# EAGLE library part EP2C50F672 (library altera-cyclone-II)
EP2C50F672 Auto generated by make-symbol-device-package-bsdl.ulp Rev. 19 Tip: Use split-device-symbol.ulp to generate a Device with multiple small symbols! Read HELP. Source: EP2C50F672.BSD
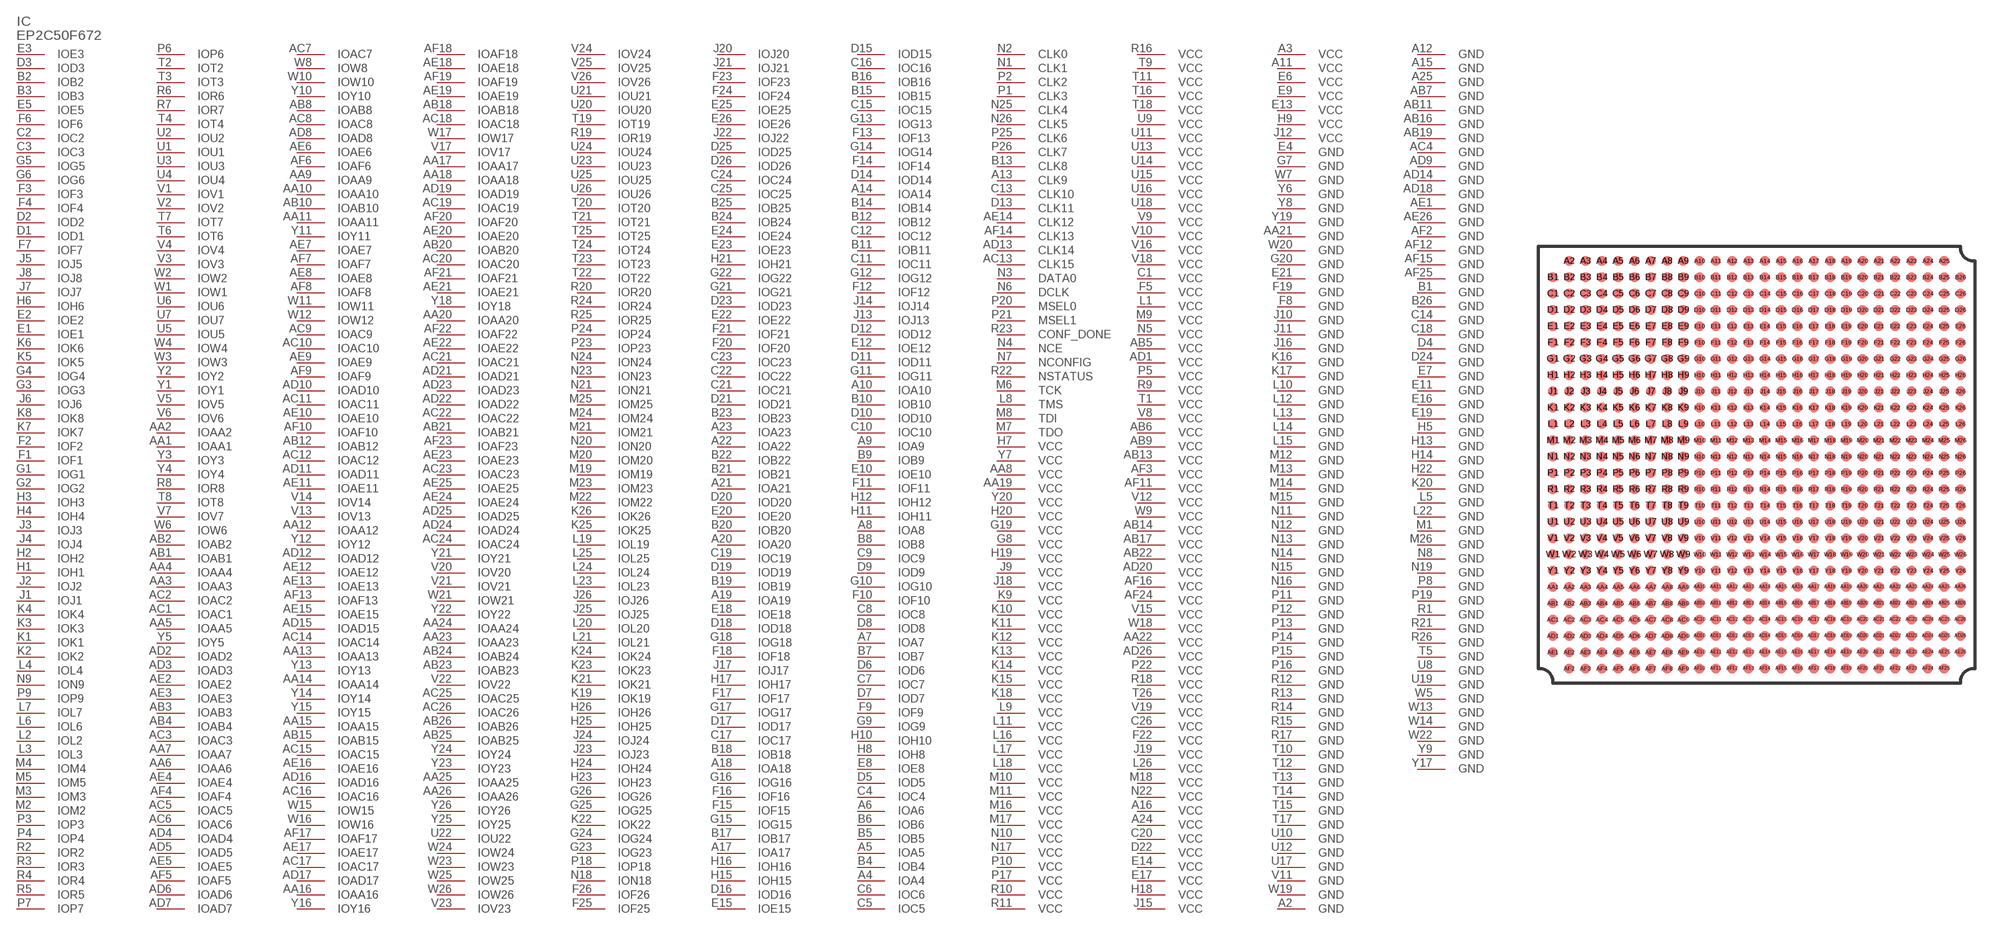
[diagram p12: symbol with the pads of FBGA672; footprint FBGA672]

Designator prefix IC

## EP2C50F672  [FBGA672]
A2  GND  pwr
A3  VCC  pwr
A4  IOA4
A5  IOA5
A6  IOA6
A7  IOA7
A8  IOA8
A9  IOA9
A10  IOA10
A11  VCC  pwr
A12  GND  pwr
A13  CLK9
A14  IOA14
A15  GND  pwr
A16  VCC  pwr
A17  IOA17
A18  IOA18
A19  IOA19
A20  IOA20
A21  IOA21
A22  IOA22
A23  IOA23
A24  VCC  pwr
A25  GND  pwr
AA1  IOAA1
AA2  IOAA2
AA3  IOAA3
AA4  IOAA4
AA5  IOAA5
AA6  IOAA6
AA7  IOAA7
AA8  VCC  pwr
AA9  IOAA9
AA10  IOAA10
AA11  IOAA11
AA12  IOAA12
AA13  IOAA13
AA14  IOAA14
AA15  IOAA15
AA16  IOAA16
AA17  IOAA17
AA18  IOAA18
AA19  VCC  pwr
AA20  IOAA20
AA21  GND  pwr
AA22  VCC  pwr
AA23  IOAA23
AA24  IOAA24
AA25  IOAA25
AA26  IOAA26
AB1  IOAB1
AB2  IOAB2
AB3  IOAB3
AB4  IOAB4
AB5  VCC  pwr
AB6  VCC  pwr
AB7  GND  pwr
AB8  IOAB8
AB9  VCC  pwr
AB10  IOAB10
AB11  GND  pwr
AB12  IOAB12
AB13  VCC  pwr
AB14  VCC  pwr
AB15  IOAB15
AB16  GND  pwr
AB17  VCC  pwr
AB18  IOAB18
AB19  GND  pwr
AB20  IOAB20
AB21  IOAB21
AB22  VCC  pwr
AB23  IOAB23
AB24  IOAB24
AB25  IOAB25
AB26  IOAB26
AC1  IOAC1
AC2  IOAC2
AC3  IOAC3
AC4  GND  pwr
AC5  IOAC5
AC6  IOAC6
AC7  IOAC7
AC8  IOAC8
AC9  IOAC9
AC10  IOAC10
AC11  IOAC11
AC12  IOAC12
AC13  CLK15
AC14  IOAC14
AC15  IOAC15
AC16  IOAC16
AC17  IOAC17
AC18  IOAC18
AC19  IOAC19
AC20  IOAC20
AC21  IOAC21
AC22  IOAC22
AC23  IOAC23
AC24  IOAC24
AC25  IOAC25
AC26  IOAC26
AD1  VCC  pwr
AD2  IOAD2
AD3  IOAD3
AD4  IOAD4
AD5  IOAD5
AD6  IOAD6
AD7  IOAD7
AD8  IOAD8
AD9  GND  pwr
AD10  IOAD10
AD11  IOAD11
AD12  IOAD12
AD13  CLK14
AD14  GND  pwr
AD15  IOAD15
AD16  IOAD16
AD17  IOAD17
AD18  GND  pwr
AD19  IOAD19
AD20  VCC  pwr
AD21  IOAD21
AD22  IOAD22
AD23  IOAD23
AD24  IOAD24
AD25  IOAD25
AD26  VCC  pwr
AE1  GND  pwr
AE2  IOAE2
AE3  IOAE3
AE4  IOAE4
AE5  IOAE5
AE6  IOAE6
AE7  IOAE7
AE8  IOAE8
AE9  IOAE9
AE10  IOAE10
AE11  IOAE11
AE12  IOAE12
AE13  IOAE13
AE14  CLK12
AE15  IOAE15
AE16  IOAE16
AE17  IOAE17
AE18  IOAE18
AE19  IOAE19
AE20  IOAE20
AE21  IOAE21
AE22  IOAE22
AE23  IOAE23
AE24  IOAE24
AE25  IOAE25
AE26  GND  pwr
AF2  GND  pwr
AF3  VCC  pwr
AF4  IOAF4
AF5  IOAF5
AF6  IOAF6
AF7  IOAF7
AF8  IOAF8
AF9  IOAF9
AF10  IOAF10
AF11  VCC  pwr
AF12  GND  pwr
AF13  IOAF13
AF14  CLK13
AF15  GND  pwr
AF16  VCC  pwr
AF17  IOAF17
AF18  IOAF18
AF19  IOAF19
AF20  IOAF20
AF21  IOAF21
AF22  IOAF22
AF23  IOAF23
AF24  VCC  pwr
AF25  GND  pwr
B1  GND  pwr
B2  IOB2
B3  IOB3
B4  IOB4
B5  IOB5
B6  IOB6
B7  IOB7
B8  IOB8
B9  IOB9
B10  IOB10
B11  IOB11
B12  IOB12
B13  CLK8
B14  IOB14
B15  IOB15
B16  IOB16
B17  IOB17
B18  IOB18
B19  IOB19
B20  IOB20
B21  IOB21
B22  IOB22
B23  IOB23
B24  IOB24
B25  IOB25
B26  GND  pwr
C1  VCC  pwr
C2  IOC2
C3  IOC3
C4  IOC4
C5  IOC5
C6  IOC6
C7  IOC7
C8  IOC8
C9  IOC9
C10  IOC10
C11  IOC11
C12  IOC12
C13  CLK10
C14  GND  pwr
C15  IOC15
C16  IOC16
C17  IOC17
C18  GND  pwr
C19  IOC19
C20  VCC  pwr
C21  IOC21
C22  IOC22
C23  IOC23
C24  IOC24
C25  IOC25
C26  VCC  pwr
D1  IOD1
D2  IOD2
D3  IOD3  out
D4  GND  pwr
D5  IOD5
D6  IOD6
D7  IOD7
D8  IOD8
D9  IOD9
D10  IOD10
D11  IOD11
D12  IOD12
D13  CLK11
D14  IOD14
D15  IOD15
D16  IOD16
D17  IOD17
D18  IOD18
D19  IOD19
D20  IOD20
D21  IOD21
D22  VCC  pwr
D23  IOD23
D24  GND  pwr
D25  IOD25
D26  IOD26
E1  IOE1
E2  IOE2
E3  IOE3  out
E4  GND  pwr
E5  IOE5
E6  VCC  pwr
E7  GND  pwr
E8  IOE8
E9  VCC  pwr
E10  IOE10
E11  GND  pwr
E12  IOE12
E13  VCC  pwr
E14  VCC  pwr
E15  IOE15
E16  GND  pwr
E17  VCC  pwr
E18  IOE18
E19  GND  pwr
E20  IOE20
E21  GND  pwr
E22  IOE22
E23  IOE23
E24  IOE24
E25  IOE25
E26  IOE26
F1  IOF1
F2  IOF2
F3  IOF3
F4  IOF4
F5  VCC  pwr
F6  IOF6
F7  IOF7
F8  GND  pwr
F9  IOF9
F10  IOF10
F11  IOF11
F12  IOF12
F13  IOF13
F14  IOF14
F15  IOF15
F16  IOF16
F17  IOF17
F18  IOF18
F19  GND  pwr
F20  IOF20
F21  IOF21
F22  VCC  pwr
F23  IOF23
F24  IOF24
F25  IOF25
F26  IOF26
G1  IOG1
G2  IOG2
G3  IOG3
G4  IOG4
G5  IOG5
G6  IOG6
G7  GND  pwr
G8  VCC  pwr
G9  IOG9
G10  IOG10
G11  IOG11
G12  IOG12
G13  IOG13
G14  IOG14
G15  IOG15
G16  IOG16
G17  IOG17
G18  IOG18
G19  VCC  pwr
G20  GND  pwr
G21  IOG21
G22  IOG22
G23  IOG23
G24  IOG24
G25  IOG25
G26  IOG26
H1  IOH1
H2  IOH2
H3  IOH3
H4  IOH4
H5  GND  pwr
H6  IOH6
H7  VCC  pwr
H8  IOH8
H9  VCC  pwr
H10  IOH10
H11  IOH11
H12  IOH12
H13  GND  pwr
H14  GND  pwr
H15  IOH15
H16  IOH16
H17  IOH17
H18  VCC  pwr
H19  VCC  pwr
H20  VCC  pwr
H21  IOH21
H22  GND  pwr
H23  IOH23
H24  IOH24
H25  IOH25
H26  IOH26
J1  IOJ1
J2  IOJ2
J3  IOJ3
J4  IOJ4
J5  IOJ5
J6  IOJ6
J7  IOJ7
J8  IOJ8
J9  VCC  pwr
J10  GND  pwr
J11  GND  pwr
J12  VCC  pwr
J13  IOJ13
J14  IOJ14
J15  VCC  pwr
J16  GND  pwr
J17  IOJ17
J18  VCC  pwr
J19  VCC  pwr
J20  IOJ20
J21  IOJ21
J22  IOJ22
J23  IOJ23
J24  IOJ24
J25  IOJ25
J26  IOJ26
K1  IOK1
K2  IOK2
K3  IOK3
K4  IOK4
K5  IOK5
K6  IOK6
K7  IOK7
K8  IOK8
K9  VCC  pwr
K10  VCC  pwr
K11  VCC  pwr
K12  VCC  pwr
K13  VCC  pwr
K14  VCC  pwr
K15  VCC  pwr
K16  GND  pwr
K17  GND  pwr
K18  VCC  pwr
K19  IOK19
K20  GND  pwr
K21  IOK21
K22  IOK22
K23  IOK23
K24  IOK24
K25  IOK25
K26  IOK26
L1  VCC  pwr
L2  IOL2
L3  IOL3
L4  IOL4
L5  GND  pwr
L6  IOL6
L7  IOL7
L8  TMS  in
L9  VCC  pwr
L10  GND  pwr
L11  VCC  pwr
L12  GND  pwr
L13  GND  pwr
L14  GND  pwr
L15  GND  pwr
L16  VCC  pwr
L17  VCC  pwr
L18  VCC  pwr
L19  IOL19
L20  IOL20
L21  IOL21
L22  GND  pwr
L23  IOL23
L24  IOL24
L25  IOL25
L26  VCC  pwr
M1  GND  pwr
M2  IOM2
M3  IOM3
M4  IOM4
M5  IOM5
M6  TCK  in
M7  TDO  out
M8  TDI  in
M9  VCC  pwr
M10  VCC  pwr
M11  VCC  pwr
M12  GND  pwr
M13  GND  pwr
M14  GND  pwr
M15  GND  pwr
M16  VCC  pwr
M17  VCC  pwr
M18  VCC  pwr
M19  IOM19
M20  IOM20
M21  IOM21
M22  IOM22
M23  IOM23
M24  IOM24
M25  IOM25
M26  GND  pwr
N1  CLK1
N2  CLK0
N3  DATA0
N4  NCE  in
N5  VCC  pwr
N6  DCLK
N7  NCONFIG  in
N8  GND  pwr
N9  ION9
N10  VCC  pwr
N11  GND  pwr
N12  GND  pwr
N13  GND  pwr
N14  GND  pwr
N15  GND  pwr
N16  GND  pwr
N17  VCC  pwr
N18  ION18
N19  GND  pwr
N20  ION20
N21  ION21
N22  VCC  pwr
N23  ION23
N24  ION24
N25  CLK4
N26  CLK5
P1  CLK3
P2  CLK2
P3  IOP3
P4  IOP4
P5  VCC  pwr
P6  IOP6
P7  IOP7
P8  GND  pwr
P9  IOP9
P10  VCC  pwr
P11  GND  pwr
P12  GND  pwr
P13  GND  pwr
P14  GND  pwr
P15  GND  pwr
P16  GND  pwr
P17  VCC  pwr
P18  IOP18
P19  GND  pwr
P20  MSEL0  in
P21  MSEL1  in
P22  VCC  pwr
P23  IOP23
P24  IOP24
P25  CLK6
P26  CLK7
R1  GND  pwr
R2  IOR2
R3  IOR3
R4  IOR4
R5  IOR5
R6  IOR6
R7  IOR7
R8  IOR8
R9  VCC  pwr
R10  VCC  pwr
R11  VCC  pwr
R12  GND  pwr
R13  GND  pwr
R14  GND  pwr
R15  GND  pwr
R16  VCC  pwr
R17  GND  pwr
R18  VCC  pwr
R19  IOR19
R20  IOR20
R21  GND  pwr
R22  NSTATUS  in
R23  CONF_DONE  in
R24  IOR24
R25  IOR25
R26  GND  pwr
T1  VCC  pwr
T2  IOT2
T3  IOT3
T4  IOT4
T5  GND  pwr
T6  IOT6
T7  IOT7
T8  IOT8
T9  VCC  pwr
T10  GND  pwr
T11  VCC  pwr
T12  GND  pwr
T13  GND  pwr
T14  GND  pwr
T15  GND  pwr
T16  VCC  pwr
T17  GND  pwr
T18  VCC  pwr
T19  IOT19
T20  IOT20
T21  IOT21
T22  IOT22
T23  IOT23
T24  IOT24
T25  IOT25
T26  VCC  pwr
U1  IOU1
U2  IOU2
U3  IOU3
U4  IOU4
U5  IOU5
U6  IOU6
U7  IOU7
U8  GND  pwr
U9  VCC  pwr
U10  GND  pwr
U11  VCC  pwr
U12  GND  pwr
U13  VCC  pwr
U14  VCC  pwr
U15  VCC  pwr
U16  VCC  pwr
U17  GND  pwr
U18  VCC  pwr
U19  GND  pwr
U20  IOU20
U21  IOU21
U22  IOU22
U23  IOU23
U24  IOU24
U25  IOU25
U26  IOU26
V1  IOV1
V2  IOV2
V3  IOV3
V4  IOV4
V5  IOV5
V6  IOV6
V7  IOV7
V8  VCC  pwr
V9  VCC  pwr
V10  VCC  pwr
V11  GND  pwr
V12  VCC  pwr
V13  IOV13
V14  IOV14
V15  VCC  pwr
V16  VCC  pwr
V17  IOV17
V18  VCC  pwr
V19  VCC  pwr
V20  IOV20
V21  IOV21
V22  IOV22
V23  IOV23
V24  IOV24
V25  IOV25
V26  IOV26
W1  IOW1
W2  IOW2
W3  IOW3
W4  IOW4
W5  GND  pwr
W6  IOW6
W7  GND  pwr
W8  IOW8
W9  VCC  pwr
W10  IOW10
W11  IOW11
W12  IOW12
W13  GND  pwr
W14  GND  pwr
W15  IOW15
W16  IOW16
W17  IOW17
W18  VCC  pwr
W19  GND  pwr
W20  GND  pwr
W21  IOW21
W22  GND  pwr
W23  IOW23
W24  IOW24
W25  IOW25
W26  IOW26
Y1  IOY1
Y2  IOY2
Y3  IOY3
Y4  IOY4
Y5  IOY5
Y6  GND  pwr
Y7  VCC  pwr
Y8  GND  pwr
Y9  GND  pwr
Y10  IOY10
Y11  IOY11
Y12  IOY12
Y13  IOY13
Y14  IOY14
Y15  IOY15
Y16  IOY16
Y17  GND  pwr
Y18  IOY18
Y19  GND  pwr
Y20  VCC  pwr
Y21  IOY21
Y22  IOY22
Y23  IOY23
Y24  IOY24
Y25  IOY25
Y26  IOY26

## Footprint FBGA672 (pad centres in mm)
EP2C35F672 Auto generated by make-symbol-device-package-bsdl.ulp Rev. 19 Source: EP2C35F672.BSD www.altera.com .. cyc2_cii51015.pdf
smd 0.6 x 0.6: A2 -11.5,12.5; A3 -10.5,12.5; A4 -9.5,12.5; A5 -8.5,12.5; A6 -7.5,12.5; A7 -6.5,12.5; A8 -5.5,12.5; A9 -4.5,12.5; A10 -3.5,12.5; A11 -2.5,12.5; A12 -1.5,12.5; A13 -0.5,12.5; A14 0.5,12.5; A15 1.5,12.5; A16 2.5,12.5; A17 3.5,12.5; A18 4.5,12.5; A19 5.5,12.5; A20 6.5,12.5; A21 7.5,12.5; A22 8.5,12.5; A23 9.5,12.5; A24 10.5,12.5; A25 11.5,12.5; AA1 -12.5,-7.5; AA2 -11.5,-7.5; AA3 -10.5,-7.5; AA4 -9.5,-7.5; AA5 -8.5,-7.5; AA6 -7.5,-7.5; AA7 -6.5,-7.5; AA8 -5.5,-7.5; AA9 -4.5,-7.5; AA10 -3.5,-7.5; AA11 -2.5,-7.5; AA12 -1.5,-7.5; AA13 -0.5,-7.5; AA14 0.5,-7.5; AA15 1.5,-7.5; AA16 2.5,-7.5; AA17 3.5,-7.5; AA18 4.5,-7.5; AA19 5.5,-7.5; AA20 6.5,-7.5; AA21 7.5,-7.5; AA22 8.5,-7.5; AA23 9.5,-7.5; AA24 10.5,-7.5; AA25 11.5,-7.5; AA26 12.5,-7.5; AB1 -12.5,-8.5; AB2 -11.5,-8.5; AB3 -10.5,-8.5; AB4 -9.5,-8.5; AB5 -8.5,-8.5; AB6 -7.5,-8.5; AB7 -6.5,-8.5; AB8 -5.5,-8.5; AB9 -4.5,-8.5; AB10 -3.5,-8.5; AB11 -2.5,-8.5; AB12 -1.5,-8.5; AB13 -0.5,-8.5; AB14 0.5,-8.5; AB15 1.5,-8.5; AB16 2.5,-8.5; AB17 3.5,-8.5; AB18 4.5,-8.5; AB19 5.5,-8.5; AB20 6.5,-8.5; AB21 7.5,-8.5; AB22 8.5,-8.5; AB23 9.5,-8.5; AB24 10.5,-8.5; AB25 11.5,-8.5; AB26 12.5,-8.5; AC1 -12.5,-9.5; AC2 -11.5,-9.5; AC3 -10.5,-9.5; AC4 -9.5,-9.5; AC5 -8.5,-9.5; AC6 -7.5,-9.5; AC7 -6.5,-9.5; AC8 -5.5,-9.5; AC9 -4.5,-9.5; AC10 -3.5,-9.5; AC11 -2.5,-9.5; AC12 -1.5,-9.5; AC13 -0.5,-9.5; AC14 0.5,-9.5; AC15 1.5,-9.5; AC16 2.5,-9.5; AC17 3.5,-9.5; AC18 4.5,-9.5; AC19 5.5,-9.5; AC20 6.5,-9.5; AC21 7.5,-9.5; AC22 8.5,-9.5; AC23 9.5,-9.5; AC24 10.5,-9.5; AC25 11.5,-9.5; AC26 12.5,-9.5; AD1 -12.5,-10.5; AD2 -11.5,-10.5; AD3 -10.5,-10.5; AD4 -9.5,-10.5; AD5 -8.5,-10.5; AD6 -7.5,-10.5; AD7 -6.5,-10.5; AD8 -5.5,-10.5; AD9 -4.5,-10.5; AD10 -3.5,-10.5; AD11 -2.5,-10.5; AD12 -1.5,-10.5; AD13 -0.5,-10.5; AD14 0.5,-10.5; AD15 1.5,-10.5; AD16 2.5,-10.5; AD17 3.5,-10.5; AD18 4.5,-10.5; AD19 5.5,-10.5; AD20 6.5,-10.5; AD21 7.5,-10.5; AD22 8.5,-10.5; AD23 9.5,-10.5; AD24 10.5,-10.5; AD25 11.5,-10.5; AD26 12.5,-10.5; AE1 -12.5,-11.5; AE2 -11.5,-11.5; AE3 -10.5,-11.5; AE4 -9.5,-11.5; AE5 -8.5,-11.5; AE6 -7.5,-11.5; AE7 -6.5,-11.5; AE8 -5.5,-11.5; AE9 -4.5,-11.5; AE10 -3.5,-11.5; AE11 -2.5,-11.5; AE12 -1.5,-11.5; AE13 -0.5,-11.5; AE14 0.5,-11.5; AE15 1.5,-11.5; AE16 2.5,-11.5; AE17 3.5,-11.5; AE18 4.5,-11.5; AE19 5.5,-11.5; AE20 6.5,-11.5; AE21 7.5,-11.5; AE22 8.5,-11.5; AE23 9.5,-11.5; AE24 10.5,-11.5; AE25 11.5,-11.5; AE26 12.5,-11.5; AF2 -11.5,-12.5; AF3 -10.5,-12.5; AF4 -9.5,-12.5; AF5 -8.5,-12.5; AF6 -7.5,-12.5; AF7 -6.5,-12.5; AF8 -5.5,-12.5; AF9 -4.5,-12.5; AF10 -3.5,-12.5; AF11 -2.5,-12.5; AF12 -1.5,-12.5; AF13 -0.5,-12.5; AF14 0.5,-12.5; AF15 1.5,-12.5; AF16 2.5,-12.5; AF17 3.5,-12.5; AF18 4.5,-12.5; AF19 5.5,-12.5; AF20 6.5,-12.5; AF21 7.5,-12.5; AF22 8.5,-12.5; AF23 9.5,-12.5; AF24 10.5,-12.5; AF25 11.5,-12.5; B1 -12.5,11.5; B2 -11.5,11.5; B3 -10.5,11.5; B4 -9.5,11.5; B5 -8.5,11.5; B6 -7.5,11.5; B7 -6.5,11.5; B8 -5.5,11.5; B9 -4.5,11.5; B10 -3.5,11.5; B11 -2.5,11.5; B12 -1.5,11.5; B13 -0.5,11.5; B14 0.5,11.5; B15 1.5,11.5; B16 2.5,11.5; B17 3.5,11.5; B18 4.5,11.5; B19 5.5,11.5; B20 6.5,11.5; B21 7.5,11.5; B22 8.5,11.5; B23 9.5,11.5; B24 10.5,11.5; B25 11.5,11.5; B26 12.5,11.5; C1 -12.5,10.5; C2 -11.5,10.5; C3 -10.5,10.5; C4 -9.5,10.5; C5 -8.5,10.5; C6 -7.5,10.5; C7 -6.5,10.5; C8 -5.5,10.5; C9 -4.5,10.5; C10 -3.5,10.5; C11 -2.5,10.5; C12 -1.5,10.5; C13 -0.5,10.5; C14 0.5,10.5; C15 1.5,10.5; C16 2.5,10.5; C17 3.5,10.5; C18 4.5,10.5; C19 5.5,10.5; C20 6.5,10.5; C21 7.5,10.5; C22 8.5,10.5; C23 9.5,10.5; C24 10.5,10.5; C25 11.5,10.5; C26 12.5,10.5; D1 -12.5,9.5; D2 -11.5,9.5; D3 -10.5,9.5; D4 -9.5,9.5; D5 -8.5,9.5; D6 -7.5,9.5; D7 -6.5,9.5; D8 -5.5,9.5; D9 -4.5,9.5; D10 -3.5,9.5; D11 -2.5,9.5; D12 -1.5,9.5; D13 -0.5,9.5; D14 0.5,9.5; D15 1.5,9.5; D16 2.5,9.5; D17 3.5,9.5; D18 4.5,9.5; D19 5.5,9.5; D20 6.5,9.5; D21 7.5,9.5; D22 8.5,9.5; D23 9.5,9.5; D24 10.5,9.5; D25 11.5,9.5; D26 12.5,9.5; E1 -12.5,8.5; E2 -11.5,8.5; E3 -10.5,8.5; E4 -9.5,8.5; E5 -8.5,8.5; E6 -7.5,8.5; E7 -6.5,8.5; E8 -5.5,8.5; E9 -4.5,8.5; E10 -3.5,8.5; E11 -2.5,8.5; E12 -1.5,8.5; E13 -0.5,8.5; E14 0.5,8.5; E15 1.5,8.5; E16 2.5,8.5; E17 3.5,8.5; E18 4.5,8.5; E19 5.5,8.5; E20 6.5,8.5; E21 7.5,8.5; E22 8.5,8.5; E23 9.5,8.5; E24 10.5,8.5; E25 11.5,8.5; E26 12.5,8.5; F1 -12.5,7.5; F2 -11.5,7.5; F3 -10.5,7.5; F4 -9.5,7.5; F5 -8.5,7.5; F6 -7.5,7.5; F7 -6.5,7.5; F8 -5.5,7.5; F9 -4.5,7.5; F10 -3.5,7.5; F11 -2.5,7.5; F12 -1.5,7.5; F13 -0.5,7.5; F14 0.5,7.5; F15 1.5,7.5; F16 2.5,7.5; F17 3.5,7.5; F18 4.5,7.5; F19 5.5,7.5; F20 6.5,7.5; F21 7.5,7.5; F22 8.5,7.5; F23 9.5,7.5; F24 10.5,7.5; F25 11.5,7.5; F26 12.5,7.5; G1 -12.5,6.5; G2 -11.5,6.5; G3 -10.5,6.5; G4 -9.5,6.5; G5 -8.5,6.5; G6 -7.5,6.5; G7 -6.5,6.5; G8 -5.5,6.5; G9 -4.5,6.5; G10 -3.5,6.5; G11 -2.5,6.5; G12 -1.5,6.5; G13 -0.5,6.5; G14 0.5,6.5; G15 1.5,6.5; G16 2.5,6.5; G17 3.5,6.5; G18 4.5,6.5; G19 5.5,6.5; G20 6.5,6.5; G21 7.5,6.5; G22 8.5,6.5; G23 9.5,6.5; G24 10.5,6.5; G25 11.5,6.5; G26 12.5,6.5; H1 -12.5,5.5; H2 -11.5,5.5; H3 -10.5,5.5; H4 -9.5,5.5; H5 -8.5,5.5; H6 -7.5,5.5; H7 -6.5,5.5; H8 -5.5,5.5; H9 -4.5,5.5; H10 -3.5,5.5; H11 -2.5,5.5; H12 -1.5,5.5; H13 -0.5,5.5; H14 0.5,5.5; H15 1.5,5.5; H16 2.5,5.5; H17 3.5,5.5; H18 4.5,5.5; H19 5.5,5.5; H20 6.5,5.5; H21 7.5,5.5; H22 8.5,5.5; H23 9.5,5.5; H24 10.5,5.5; H25 11.5,5.5; H26 12.5,5.5; J1 -12.5,4.5; J2 -11.5,4.5; J3 -10.5,4.5; J4 -9.5,4.5; J5 -8.5,4.5; J6 -7.5,4.5; J7 -6.5,4.5; J8 -5.5,4.5; J9 -4.5,4.5; J10 -3.5,4.5; J11 -2.5,4.5; J12 -1.5,4.5; J13 -0.5,4.5; J14 0.5,4.5; J15 1.5,4.5; J16 2.5,4.5; J17 3.5,4.5; J18 4.5,4.5; J19 5.5,4.5; J20 6.5,4.5; J21 7.5,4.5; J22 8.5,4.5; J23 9.5,4.5; J24 10.5,4.5; J25 11.5,4.5; J26 12.5,4.5; K1 -12.5,3.5; K2 -11.5,3.5; K3 -10.5,3.5; K4 -9.5,3.5; K5 -8.5,3.5; K6 -7.5,3.5; K7 -6.5,3.5; K8 -5.5,3.5; K9 -4.5,3.5; K10 -3.5,3.5; K11 -2.5,3.5; K12 -1.5,3.5; K13 -0.5,3.5; K14 0.5,3.5; K15 1.5,3.5; K16 2.5,3.5; K17 3.5,3.5; K18 4.5,3.5; K19 5.5,3.5; K20 6.5,3.5; K21 7.5,3.5; K22 8.5,3.5; K23 9.5,3.5; K24 10.5,3.5; K25 11.5,3.5; K26 12.5,3.5; L1 -12.5,2.5; L2 -11.5,2.5; L3 -10.5,2.5; L4 -9.5,2.5; L5 -8.5,2.5; L6 -7.5,2.5; L7 -6.5,2.5; L8 -5.5,2.5; L9 -4.5,2.5; L10 -3.5,2.5; L11 -2.5,2.5; L12 -1.5,2.5; L13 -0.5,2.5; L14 0.5,2.5; L15 1.5,2.5; L16 2.5,2.5; L17 3.5,2.5; L18 4.5,2.5; L19 5.5,2.5; L20 6.5,2.5; L21 7.5,2.5; L22 8.5,2.5; L23 9.5,2.5; L24 10.5,2.5; L25 11.5,2.5; L26 12.5,2.5; M1 -12.5,1.5; M2 -11.5,1.5; M3 -10.5,1.5; M4 -9.5,1.5; M5 -8.5,1.5; M6 -7.5,1.5; M7 -6.5,1.5; M8 -5.5,1.5; M9 -4.5,1.5; M10 -3.5,1.5; M11 -2.5,1.5; M12 -1.5,1.5; M13 -0.5,1.5; M14 0.5,1.5; M15 1.5,1.5; M16 2.5,1.5; M17 3.5,1.5; M18 4.5,1.5; M19 5.5,1.5; M20 6.5,1.5; M21 7.5,1.5; M22 8.5,1.5; M23 9.5,1.5; M24 10.5,1.5; M25 11.5,1.5; M26 12.5,1.5; N1 -12.5,0.5; N2 -11.5,0.5; N3 -10.5,0.5; N4 -9.5,0.5; N5 -8.5,0.5; N6 -7.5,0.5; N7 -6.5,0.5; N8 -5.5,0.5; N9 -4.5,0.5; N10 -3.5,0.5; N11 -2.5,0.5; N12 -1.5,0.5; N13 -0.5,0.5; N14 0.5,0.5; N15 1.5,0.5; N16 2.5,0.5; N17 3.5,0.5; N18 4.5,0.5; N19 5.5,0.5; N20 6.5,0.5; N21 7.5,0.5; N22 8.5,0.5; N23 9.5,0.5; N24 10.5,0.5; N25 11.5,0.5; N26 12.5,0.5; P1 -12.5,-0.5; P2 -11.5,-0.5; P3 -10.5,-0.5; P4 -9.5,-0.5; P5 -8.5,-0.5; P6 -7.5,-0.5; P7 -6.5,-0.5; P8 -5.5,-0.5; P9 -4.5,-0.5; P10 -3.5,-0.5; P11 -2.5,-0.5; P12 -1.5,-0.5; P13 -0.5,-0.5; P14 0.5,-0.5; P15 1.5,-0.5; P16 2.5,-0.5; P17 3.5,-0.5; P18 4.5,-0.5; P19 5.5,-0.5; P20 6.5,-0.5; P21 7.5,-0.5; P22 8.5,-0.5; P23 9.5,-0.5; P24 10.5,-0.5; P25 11.5,-0.5; P26 12.5,-0.5; R1 -12.5,-1.5; R2 -11.5,-1.5; R3 -10.5,-1.5; R4 -9.5,-1.5; R5 -8.5,-1.5; R6 -7.5,-1.5; R7 -6.5,-1.5; R8 -5.5,-1.5; R9 -4.5,-1.5; R10 -3.5,-1.5; R11 -2.5,-1.5; R12 -1.5,-1.5; R13 -0.5,-1.5; R14 0.5,-1.5; R15 1.5,-1.5; R16 2.5,-1.5; R17 3.5,-1.5; R18 4.5,-1.5; R19 5.5,-1.5; R20 6.5,-1.5; R21 7.5,-1.5; R22 8.5,-1.5; R23 9.5,-1.5; R24 10.5,-1.5; R25 11.5,-1.5; R26 12.5,-1.5; T1 -12.5,-2.5; T2 -11.5,-2.5; T3 -10.5,-2.5; T4 -9.5,-2.5; T5 -8.5,-2.5; T6 -7.5,-2.5; T7 -6.5,-2.5; T8 -5.5,-2.5; T9 -4.5,-2.5; T10 -3.5,-2.5; T11 -2.5,-2.5; T12 -1.5,-2.5; T13 -0.5,-2.5; T14 0.5,-2.5; T15 1.5,-2.5; T16 2.5,-2.5; T17 3.5,-2.5; T18 4.5,-2.5; T19 5.5,-2.5; T20 6.5,-2.5; T21 7.5,-2.5; T22 8.5,-2.5; T23 9.5,-2.5; T24 10.5,-2.5; T25 11.5,-2.5; T26 12.5,-2.5; U1 -12.5,-3.5; U2 -11.5,-3.5; U3 -10.5,-3.5; U4 -9.5,-3.5; U5 -8.5,-3.5; U6 -7.5,-3.5; U7 -6.5,-3.5; U8 -5.5,-3.5; U9 -4.5,-3.5; U10 -3.5,-3.5; U11 -2.5,-3.5; U12 -1.5,-3.5; U13 -0.5,-3.5; U14 0.5,-3.5; U15 1.5,-3.5; U16 2.5,-3.5; U17 3.5,-3.5; U18 4.5,-3.5; U19 5.5,-3.5; U20 6.5,-3.5; U21 7.5,-3.5; U22 8.5,-3.5; U23 9.5,-3.5; U24 10.5,-3.5; U25 11.5,-3.5; U26 12.5,-3.5; V1 -12.5,-4.5; V2 -11.5,-4.5; V3 -10.5,-4.5; V4 -9.5,-4.5; V5 -8.5,-4.5; V6 -7.5,-4.5; V7 -6.5,-4.5; V8 -5.5,-4.5; V9 -4.5,-4.5; V10 -3.5,-4.5; V11 -2.5,-4.5; V12 -1.5,-4.5; V13 -0.5,-4.5; V14 0.5,-4.5; V15 1.5,-4.5; V16 2.5,-4.5; V17 3.5,-4.5; V18 4.5,-4.5; V19 5.5,-4.5; V20 6.5,-4.5; V21 7.5,-4.5; V22 8.5,-4.5; V23 9.5,-4.5; V24 10.5,-4.5; V25 11.5,-4.5; V26 12.5,-4.5; W1 -12.5,-5.5; W2 -11.5,-5.5; W3 -10.5,-5.5; W4 -9.5,-5.5; W5 -8.5,-5.5; W6 -7.5,-5.5; W7 -6.5,-5.5; W8 -5.5,-5.5; W9 -4.5,-5.5; W10 -3.5,-5.5; W11 -2.5,-5.5; W12 -1.5,-5.5; W13 -0.5,-5.5; W14 0.5,-5.5; W15 1.5,-5.5; W16 2.5,-5.5; W17 3.5,-5.5; W18 4.5,-5.5; W19 5.5,-5.5; W20 6.5,-5.5; W21 7.5,-5.5; W22 8.5,-5.5; W23 9.5,-5.5; W24 10.5,-5.5; W25 11.5,-5.5; W26 12.5,-5.5; Y1 -12.5,-6.5; Y2 -11.5,-6.5; Y3 -10.5,-6.5; Y4 -9.5,-6.5; Y5 -8.5,-6.5; Y6 -7.5,-6.5; Y7 -6.5,-6.5; Y8 -5.5,-6.5; Y9 -4.5,-6.5; Y10 -3.5,-6.5; Y11 -2.5,-6.5; Y12 -1.5,-6.5; Y13 -0.5,-6.5; Y14 0.5,-6.5; Y15 1.5,-6.5; Y16 2.5,-6.5; Y17 3.5,-6.5; Y18 4.5,-6.5; Y19 5.5,-6.5; Y20 6.5,-6.5; Y21 7.5,-6.5; Y22 8.5,-6.5; Y23 9.5,-6.5; Y24 10.5,-6.5; Y25 11.5,-6.5; Y26 12.5,-6.5